# EAGLE library part MT3329 (library Kolja)
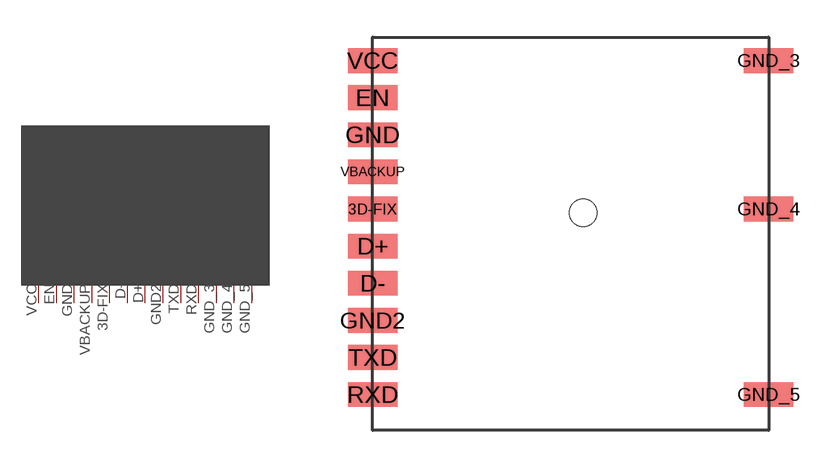
[diagram p2: symbol with the pads of MT3329; footprint MT3329]

Designator prefix -

## MT3329  [MT3329]
3D-FIX  3D-FIX
D+  DMINUS
D-  DPLUS
EN  EN
GND  GND
GND2  GND2
GND_3  GND_3
GND_4  GND_4
GND_5  GND_5
RXD  RXD
TXD  TXD_NMEA_OUT
VBACKUP  VBACKUP
VCC  VCC

## Footprint MT3329 (pad centres in mm)
smd 2 x 1: 3D-FIX -8.5,0.15; D+ -8.5,-1.35; D- -8.5,-2.85; EN -8.5,4.65; GND -8.5,3.15; GND2 -8.5,-4.35; GND_3 7.5,6.15; GND_4 7.5,0.15; GND_5 7.5,-7.35; RXD -8.5,-7.35; TXD -8.5,-5.85; VBACKUP -8.5,1.65; VCC -8.5,6.15
hole 1.1 at 0,0